# EAGLE library part FSC-BT986-A (library EYR_Modulos)
FSC-BT986 5.0 Dual Mode Bluetooth Module by Feasycom <https://www.feasycom.com/product-1336.html> Este diseño solo cuenta con los PADs y pines necesarios para establecer una comunicacion UART.
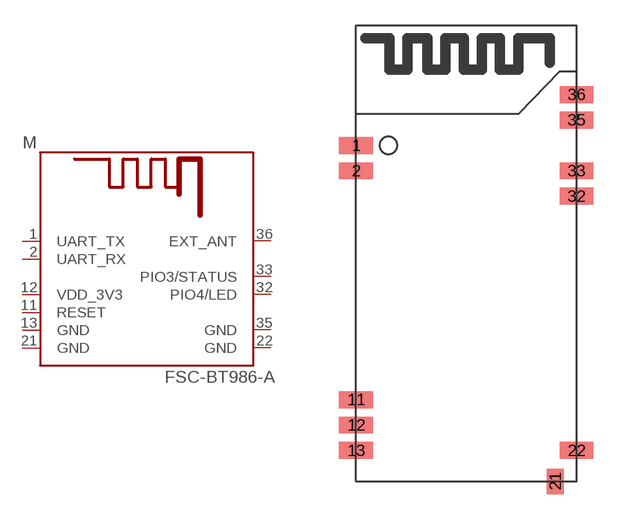
[diagram p7: symbol with the pads of BT_FEASYCOM_A; footprint BT_FEASYCOM_A]

Designator prefix M

## FSC-BT986-A  [BT_FEASYCOM_A]
1  UART_TX
2  UART_RX
11  RESET
12  VDD_3V3
13  GND
21  GND
22  GND
32  PIO4/LED
33  PIO3/STATUS
35  GND
36  EXT_ANT

## Footprint BT_FEASYCOM_A (pad centres in mm)
smd 2 x 1: 1 -6.35,6.35; 2 -6.35,4.85; 11 -6.35,-8.65; 12 -6.35,-10.15; 13 -6.35,-11.65; 22 6.65,-11.65; 32 6.65,3.35; 33 6.65,4.85; 35 6.65,7.85; 36 6.65,9.35
smd 1 x 1.5: 21 5.4,-13.47